# Altium footprint library 691 217 910 0xx.PcbLib: 2 footprints
Each footprint in its own frame and in the unit in brackets; x right, y up, seen from the top. Pads: shape width x height; smd on the part's side, far side on the other; paste and mask are expansions set on the pad; w line width, h text height; cw(c..) or ccw(c..) is an arc to the next point about the centre after c.
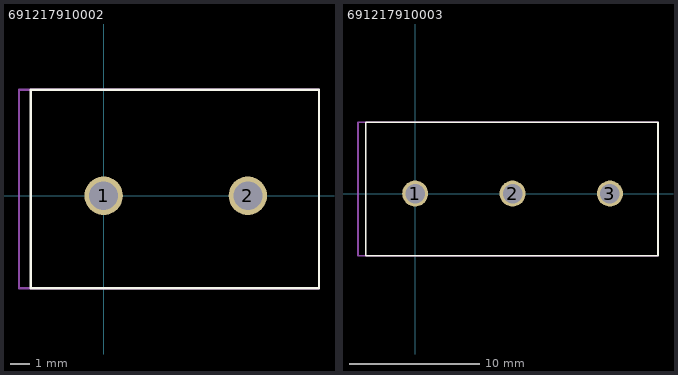
[diagram p0: the footprints below, top view; thin cyan lines are the x and y axes]

## 691217910002 [mm]
height 14.3
pads (2):
  round 2 hole 1.5: 1(0,0) 2(7.5,0)
Top Overlay:
  lines w0.127: -3.8,-4.8 11.2,-4.8 11.2,5.5 -3.8,5.5 -3.8,-4.8
Mechanical 13:
  lines w0.127: -4.4,-4.8 -4.4,5.5 11.2,5.5 11.2,-4.8 -4.4,-4.8
3D body: height 14.31, standoff -3.49, extent -4.4,-4.8 11.2,5.5

## 691217910003 [mm]
height 14.3
pads (3):
  round 2 hole 1.5: 1(0,0) 2(7.5,0) 3(15,0)
Top Overlay:
  lines w0.127: -3.8,-4.8 18.7,-4.8 18.7,5.5 -3.8,5.5 -3.8,-4.8
Mechanical 13:
  lines w0.127: -4.4,-4.8 -4.4,5.5 18.7,5.5 18.7,-4.8 -4.4,-4.8
3D body: height 14.31, standoff -3.49, extent -4.4,-4.8 18.7,5.5